# Altium integrated library MEM2061-01-188-00-A_REVA.IntLib: 1 symbol
Pins are listed as number, name and electrical type; pins without a type are passive.

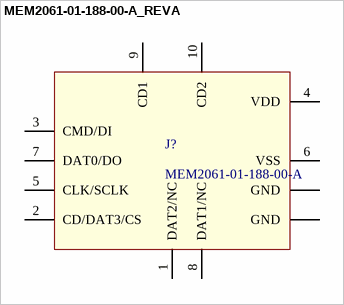
[diagram p0: symbol MEM2061-01-188-00-A_REVA]

## MEM2061-01-188-00-A_REVA
designator J?, comment MEM2061-01-188-00-A
10 _8 + 2_ Position Card Connector microSDâ„¢ Surface Mount, Right Angle Gold; MF: Global Connector Technology; SnapEDA_Link: https://www.snapeda.com/parts/MEM2061-01-188-00-A/Global%20Connector%20Technology/view-part/779219/?ref=snap; Package: None; Price: None; Value: MEM2061-01-188-00-A; Availability: Unavailable; MP: MEM2061-01-188-00-A
footprint GCT_MEM2061-01-188-00-A_REVA
pins: 1 DAT2/NC, 2 CD/DAT3/CS, 3 CMD/DI, 4 VDD, 5 CLK/SCLK, 6 VSS, 7 DAT0/DO, 8 DAT1/NC, 9 CD1, 10 CD2, GND, GND